# EAGLE library part IC_UC_ATMEGA328P-AU (library ECE388)
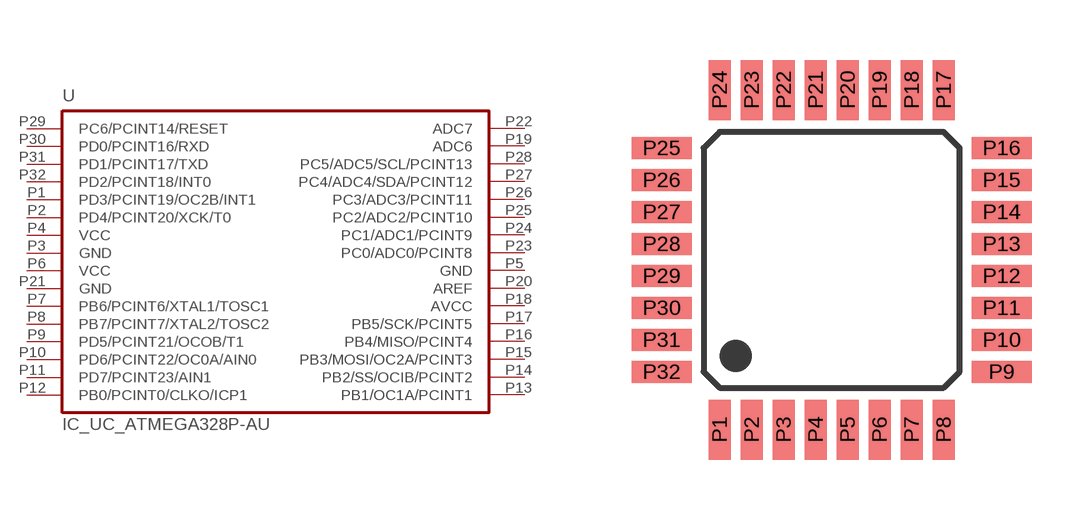
[diagram p1: symbol with the pads of TQFP-32-7X7; footprint TQFP-32-7X7]

Designator prefix -

## IC_UC_ATMEGA328P-AU  [TQFP-32-7X7]
P1  PD3/PCINT19/OC2B/INT1
P2  PD4/PCINT20/XCK/T0
P3  GND
P4  VCC
P5  GND
P6  VCC
P7  PB6/PCINT6/XTAL1/TOSC1
P8  PB7/PCINT7/XTAL2/TOSC2
P9  PD5/PCINT21/OCOB/T1
P10  PD6/PCINT22/OC0A/AIN0
P11  PD7/PCINT23/AIN1
P12  PB0/PCINT0/CLKO/ICP1
P13  PB1/OC1A/PCINT1
P14  PB2/SS/OCIB/PCINT2
P15  PB3/MOSI/OC2A/PCINT3
P16  PB4/MISO/PCINT4
P17  PB5/SCK/PCINT5
P18  AVCC
P19  ADC6
P20  AREF
P21  GND
P22  ADC7
P23  PC0/ADC0/PCINT8
P24  PC1/ADC1/PCINT9
P25  PC2/ADC2/PCINT10
P26  PC3/ADC3/PCINT11
P27  PC4/ADC4/SDA/PCINT12
P28  PC5/ADC5/SCL/PCINT13
P29  PC6/PCINT14/RESET
P30  PD0/PCINT16/RXD
P31  PD1/PCINT17/TXD
P32  PD2/PCINT18/INT0

## Footprint TQFP-32-7X7 (pad centres in mm)
Pin pitch: 0.80mm Chip size: 7x7mm
smd 0.55 x 1.5: P1 -2.8,-4.25; P2 -2,-4.25; P3 -1.2,-4.25; P4 -0.4,-4.25; P5 0.4,-4.25; P6 1.2,-4.25; P7 2,-4.25; P8 2.8,-4.25; P17 2.8,4.25; P18 2,4.25; P19 1.2,4.25; P20 0.4,4.25; P21 -0.4,4.25; P22 -1.2,4.25; P23 -2,4.25; P24 -2.8,4.25
smd 1.5 x 0.55: P9 4.25,-2.8; P10 4.25,-2; P11 4.25,-1.2; P12 4.25,-0.4; P13 4.25,0.4; P14 4.25,1.2; P15 4.25,2; P16 4.25,2.8; P25 -4.25,2.8; P26 -4.25,2; P27 -4.25,1.2; P28 -4.25,0.4; P29 -4.25,-0.4; P30 -4.25,-1.2; P31 -4.25,-2; P32 -4.25,-2.8